# Altium footprint library IRFR9220TRPBFBE3.PcbLib: 1 footprints
Each footprint in its own frame and in the unit in brackets; x right, y up, seen from the top. Pads: shape width x height; smd on the part's side, far side on the other; paste and mask are expansions set on the pad; w line width, h text height; cw(c..) or ccw(c..) is an arc to the next point about the centre after c.
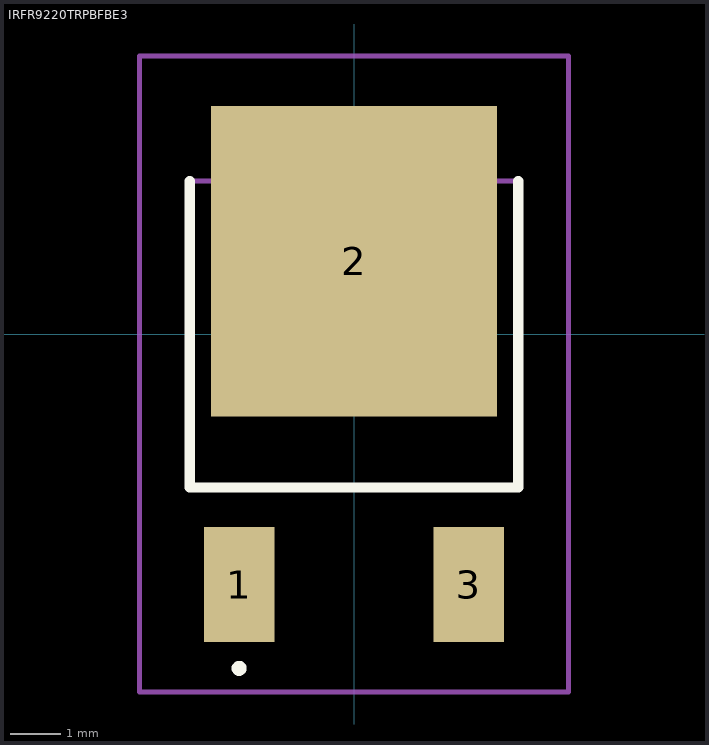
[diagram p0: the footprint, top view; thin cyan lines are the x and y axes]

## IRFR9220TRPBFBE3 [mil]
pads (3):
  rect 55x90 smd: 1(-90,-196.14) 3(90,-196.14)
  rect 224.02x243.31 smd: 2(0,57.2)
Top Overlay:
  lines w7.87: -128.74,120 -128.74,-119.96 128.74,-119.96 128.74,120 ; -90,-263.78 cw(c-90,-261.81) -90,-259.84 ; -90,-263.78 -90,-263.78 ; -90,-263.78 ccw(c-90,-261.81) -90,-259.84 ; -90,-263.78 cw(c-90,-261.81) -90,-259.84 ; -90,-259.84 -90,-259.84 ; -90,-259.84 -90,-259.84
Mechanical 15:
  lines w3.94: -128.74,-119.96 128.74,-119.96 128.74,120 -128.74,120 -128.74,-119.96
Mechanical 20:
  lines w3.94: -168.11,-280.51 168.11,-280.51 168.11,218.23 -168.11,218.23 -168.11,-280.51